# Altium schematic symbol library ERJU08J224V.SchLib: 1 symbol
Pins are listed as number, name and electrical type; pins without a type are passive.

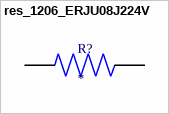
[diagram p0: symbol res_1206_ERJU08J224V]

## res_1206_ERJU08J224V
designator R?
RES 1206; MP: ERJU08J224V; Value: *; Price: None; Package: None; Availability: Unavailable
footprint RES_ERJU08J224V
pins: 1, 2